# EAGLE library part MM74HC273N (library Fairchild_By_element14_Batch_1)
Octal D-Type Flip-Flops with Clear
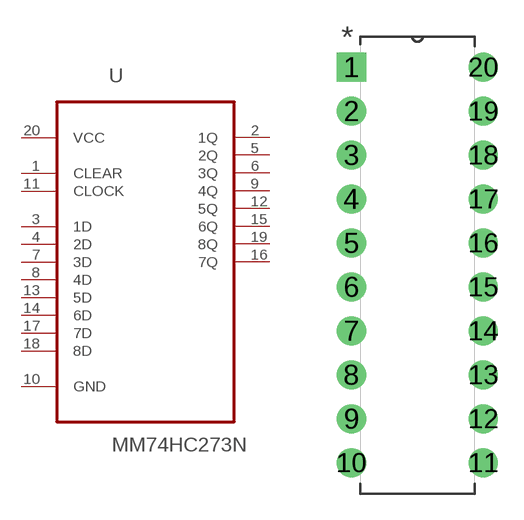
[diagram p271: symbol with the pads of DIP254P762X508-20; footprint DIP254P762X508-20]

Designator prefix U

## MM74HC273N (MPN: MM74HC273N; OC_FARNELL: 1013937; OC_NEWARK: -; PACKAGE: PDIP-20; SUPPLIER: FAIRCHILD SEMICONDUCTOR)  [DIP254P762X508-20]
1  CLEAR  in
2  1Q  out
3  1D  in
4  2D  in
5  2Q  out
6  3Q  out
7  3D  in
8  4D  in
9  4Q  out
10  GND  pas
11  CLOCK  in
12  5Q  out
13  5D  in
14  6D  in
15  6Q  out
16  7Q  out
17  7D  in
18  8D  in
19  8Q  out
20  VCC  pwr

## Footprint DIP254P762X508-20 (pad centres in mm)
drill 1.118 square: 1 -7.62,22.86
drill 1.118: 2 -7.62,20.32; 3 -7.62,17.78; 4 -7.62,15.24; 5 -7.62,12.7; 6 -7.62,10.16; 7 -7.62,7.62; 8 -7.62,5.08; 9 -7.62,2.54; 10 -7.62,0; 11 0,0; 12 0,2.54; 13 0,5.08; 14 0,7.62; 15 0,10.16; 16 0,12.7; 17 0,15.24; 18 0,17.78; 19 0,20.32; 20 0,22.86